# Altium footprint library MOV_AXIAL_7.8_0.9.PcbLib: 1 footprints
Each footprint in its own frame and in the unit in brackets; x right, y up, seen from the top. Pads: shape width x height; smd on the part's side, far side on the other; paste and mask are expansions set on the pad; w line width, h text height; cw(c..) or ccw(c..) is an arc to the next point about the centre after c.
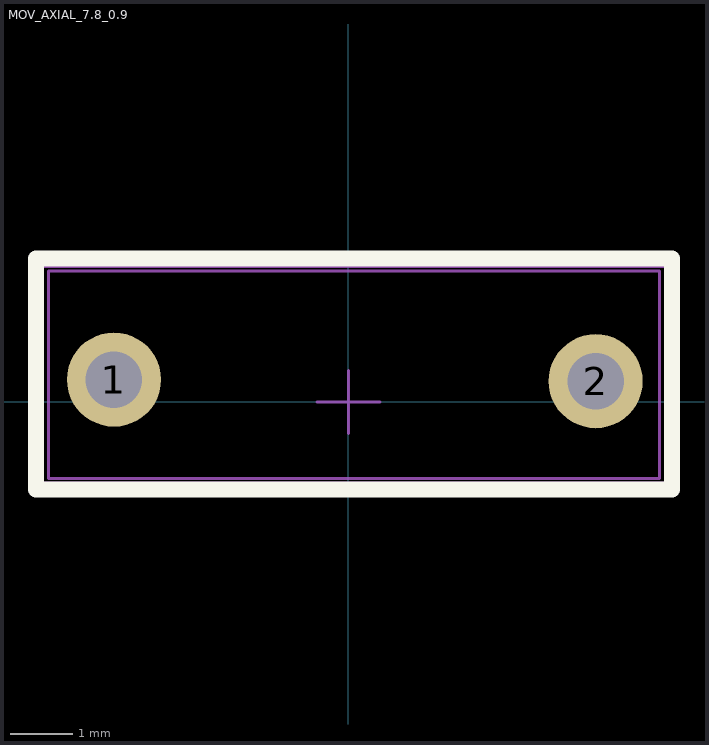
[diagram p0: the footprint, top view; thin cyan lines are the x and y axes]

## MOV_AXIAL_7.8_0.9 [mm]
pads (2):
  round 1.5 hole 0.9: 1(-3.734,0.356) 2(3.937,0.33)
Top Overlay:
  lines w0.254: -4.978,-1.397 -4.978,2.286 5.156,2.286 5.156,-1.397 -4.978,-1.397
Top Assembly:
  lines w0.05: -4.775,-1.219 -4.775,2.083 4.953,2.083 4.953,-1.219 -4.775,-1.219
Top Courtyard:
  lines w0.05: -0.5,0 0.5,0 ; 0,-0.5 0,0.5 ; -4.902,-1.295 -4.902,-0.664 -4.902,2.159 5.055,2.159 5.055,-1.295 -4.902,-1.295
3D body "User Library-S14K25 MOV.STEP": height 18.5, standoff -3, extent -7.871,-3.485 8.176,4.094